# Altium footprint library Fuses.PcbLib: 2 footprints
Each footprint in its own frame and in the unit in brackets; x right, y up, seen from the top. Pads: shape width x height; smd on the part's side, far side on the other; paste and mask are expansions set on the pad; w line width, h text height; cw(c..) or ccw(c..) is an arc to the next point about the centre after c.
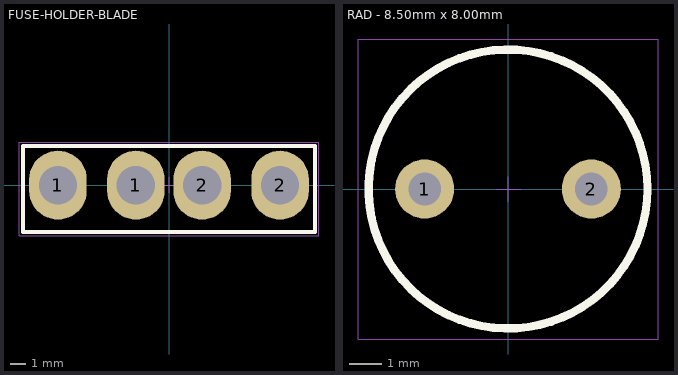
[diagram p0: the footprints below, top view; thin cyan lines are the x and y axes]

## FUSE-HOLDER-BLADE [mm]
pads (4):
  oval 3.75x4.5 hole 2.5: 1(-7.239,0) 1(-2.159,0) 2(2.159,0) 2(7.239,0)
Top Overlay:
  lines w0.254: -9.525,-3.048 9.525,-3.048 9.525,2.54 -9.525,2.54 -9.525,-3.048
Top Courtyard (Mech4):
  lines w0.025: -9.779,-3.302 -9.779,2.794 9.779,2.794 9.779,-3.302 -9.779,-3.302
Top Assembly:
  lines w0.025: -0.508,0 0.508,0 ; 0,-0.508 0,0.508
3D body "01000057Z--3DModel-STEP-269445.STEP": height 7.12, standoff -4.05, extent -8.128,-2.721 -1.27,0.7
3D body "01000057Z--3DModel-STEP-269445.STEP": height 7.12, standoff -4.05, extent 1.27,-2.721 8.128,0.7

## RAD - 8.50mm x 8.00mm [mm]
pads (2):
  round 1.8 hole 1: 1(-2.54,0) 2(2.54,0)
Top Overlay:
  circle w0.254: c0,0 r4.25
Top Courtyard (Mech4):
  lines w0.025: -4.572,-4.572 -4.572,4.572 4.572,4.572 4.572,-4.572 -4.572,-4.572
Top Assembly:
  lines w0.025: -0.381,0 0.381,0 ; 0,-0.381 0,0.381
3D body "38211000410.stp": height 8.01, standoff -3.79, extent -4.238,-4.25 4.238,4.25